# EAGLE library part 41464 (library memories)
DRAM 64K x 4 bits
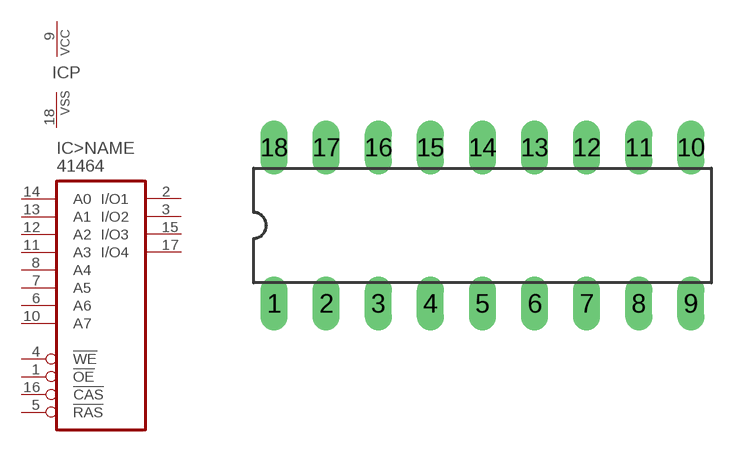
[diagram p6: symbol with the pads of DIL18; footprint DIL18]

Designator prefix IC; gates >NAME=DRAM64KX4 P=VCCVSS

## 41464  [DIL18]
1  >NAME:!OE  in
2  >NAME:I/O1
3  >NAME:I/O2
4  >NAME:!WE  in
5  >NAME:!RAS  in
6  >NAME:A6  in
7  >NAME:A5  in
8  >NAME:A4  in
9  P:VCC  pwr
10  >NAME:A7  in
11  >NAME:A3  in
12  >NAME:A2  in
13  >NAME:A1  in
14  >NAME:A0  in
15  >NAME:I/O3
16  >NAME:!CAS  in
17  >NAME:I/O4
18  P:VSS  pwr

## Footprint DIL18 (pad centres in mm)
Dual In Line
drill 0.813 long: 1 -10.16,-3.81; 2 -7.62,-3.81; 3 -5.08,-3.81; 4 -2.54,-3.81; 5 0,-3.81; 6 2.54,-3.81; 7 5.08,-3.81; 8 7.62,-3.81; 9 10.16,-3.81; 10 10.16,3.81; 11 7.62,3.81; 12 5.08,3.81; 13 2.54,3.81; 14 0,3.81; 15 -2.54,3.81; 16 -5.08,3.81; 17 -7.62,3.81; 18 -10.16,3.81